# Altium footprint library MECHaniParts.PcbLib: 30 footprints (part 2 of 2)
Each footprint in its own frame and in the unit in brackets; x right, y up, seen from the top. Pads: shape width x height; smd on the part's side, far side on the other; paste and mask are expansions set on the pad; w line width, h text height; cw(c..) or ccw(c..) is an arc to the next point about the centre after c.
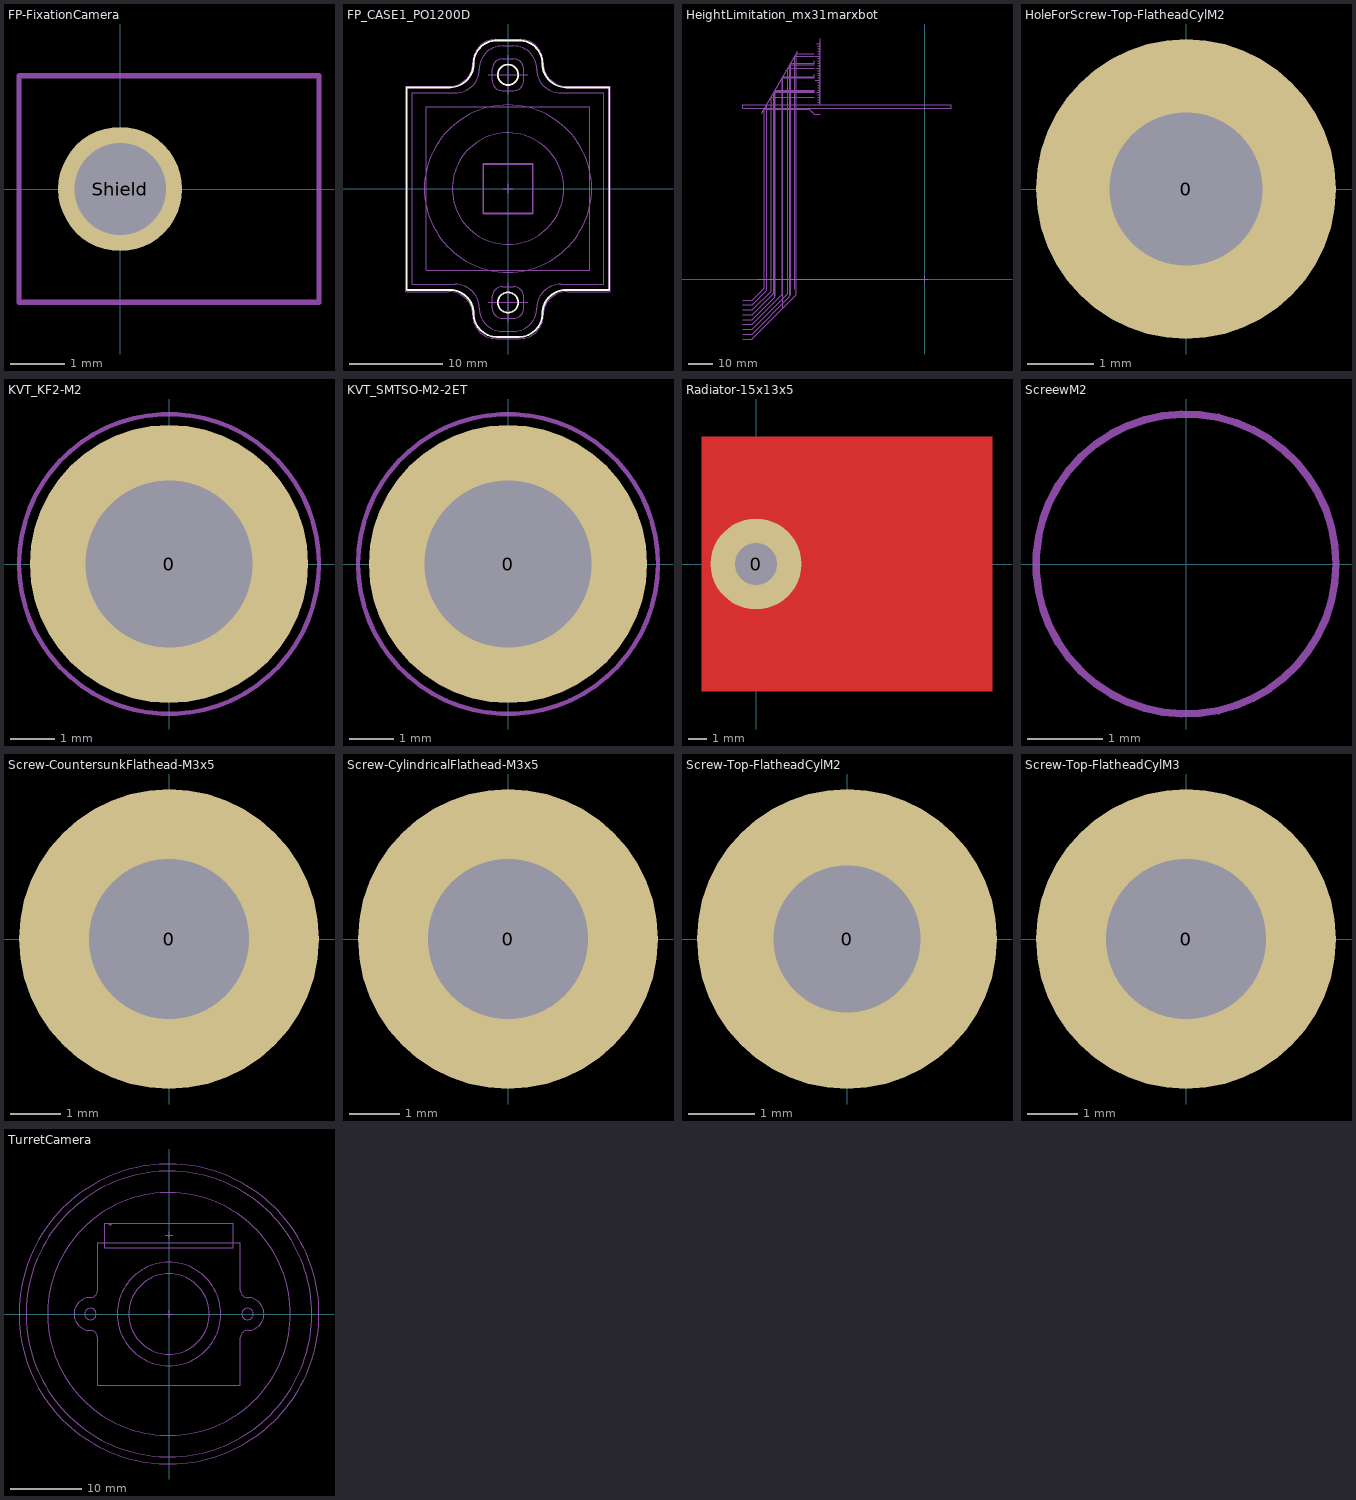
[diagram p1: the footprints below, top view; thin cyan lines are the x and y axes]

## FP-FixationCamera [mm] "Footprint for Socket for the fixation of the camera pcb"
pads (1):
  round 2.3 / inner round 2.3 / far side round 3.2 hole 1.7: Shield(0,0)
Top Overlay:
  lines w0.2: -0.625,0 cw(c0,0) 0,0.625 cw(c0,0) 0.625,0 cw(c0,0) 0,-0.625 cw(c0,0) -0.625,0
Note:
  lines w0.1: -1.874,-2.1 3.686,-2.1 3.686,2.1 -1.874,2.1 -1.874,-2.1
  text "Place a room with no component" at -5.475,3.1 h1
  text "and lock it AND the pad" at -3.75,2.375 h1
TopBody:
  lines w0.1: -0.625,0 cw(c0,0) 0,0.625 cw(c0,0) 0.625,0 cw(c0,0) 0,-0.625 cw(c0,0) -0.625,0

## FP_CASE1_PO1200D [mm] "Footprint for Case 1 of PO1200D PixelPlus Camera"
Top Overlay:
  lines w0.2: -10.9,-10.9 -6.25,-10.9 cw(c-6.25,-13.45) -3.7,-13.45 ccw(c-1.2,-13.45) -1.2,-15.95 1.2,-15.95 ccw(c1.2,-13.45) 3.7,-13.45 cw(c6.25,-13.45) 6.25,-10.9 10.9,-10.9 10.9,10.9 6.25,10.9 cw(c6.25,13.45) 3.7,13.45 ccw(c1.2,13.45) 1.2,15.95 -1.2,15.95 ccw(c-1.2,13.45) -3.7,13.45 cw(c-6.25,13.45) -6.25,10.9 -10.9,10.9 -10.9,-10.9 ; -1.1,-12.25 cw(c0,-12.25) 0,-11.15 cw(c0,-12.25) 1.1,-12.25 cw(c0,-12.25) 0,-13.35 cw(c0,-12.25) -1.1,-12.25 ; -1.1,12.25 ccw(c0,12.25) 0,11.15 ccw(c0,12.25) 1.1,12.25 ccw(c0,12.25) 0,13.35 ccw(c0,12.25) -1.1,12.25
Bottom Paste:
  lines w0.05: -6.25,-10.9 -6.25,-13.45 ; -5.807,-10.939 -6.25,-13.45 ; -5.378,-11.054 -6.25,-13.45 ; -4.975,-11.242 -6.25,-13.45 ; -4.611,-11.497 -6.25,-13.45 ; -4.297,-11.811 -6.25,-13.45 ; -4.042,-12.175 -6.25,-13.45 ; -3.854,-12.578 -6.25,-13.45 ; -3.739,-13.007 -6.25,-13.45 ; -3.662,-13.884 -1.2,-13.45 ; -3.549,-14.305 -1.2,-13.45 ; -3.365,-14.7 -1.2,-13.45 ; -3.115,-15.057 -1.2,-13.45 ; -2.807,-15.365 -1.2,-13.45 ; -2.45,-15.615 -1.2,-13.45 ; -2.055,-15.799 -1.2,-13.45 ; -1.634,-15.912 -1.2,-13.45 ; -1.2,-15.95 -1.2,-13.45 ; 1.2,-15.95 1.2,-13.45 ; 1.634,-15.912 1.2,-13.45 ; 2.055,-15.799 1.2,-13.45 ; 2.45,-15.615 1.2,-13.45 ; 2.807,-15.365 1.2,-13.45 ; 3.115,-15.057 1.2,-13.45 ; 3.365,-14.7 1.2,-13.45 ; 3.549,-14.305 1.2,-13.45 ; 3.662,-13.884 1.2,-13.45 ; 3.739,-13.007 6.25,-13.45 ; 3.854,-12.578 6.25,-13.45 ; 4.042,-12.175 6.25,-13.45 ; 4.297,-11.811 6.25,-13.45 ; 4.611,-11.497 6.25,-13.45 ; 4.975,-11.242 6.25,-13.45 ; 5.378,-11.054 6.25,-13.45 ; 5.807,-10.939 6.25,-13.45 ; 6.25,-10.9 6.25,-13.45 ; -6.25,-13.45 -3.7,-13.45 -1.2,-13.45 ; 1.2,-13.45 3.7,-13.45 6.25,-13.45
Note:
  lines w0.1: -2.1,-12.25 0,-12.25 ; -2.1,12.25 0,12.25 ; 0,-14.35 0,-12.25 ; 0,-10.15 0,-12.25 ; 0,10.15 0,12.25 ; 0,14.35 0,12.25 ; 2.1,-12.25 0,-12.25 ; 2.1,12.25 0,12.25
  lines w0.2: -2.665,-2.665 2.665,-2.665 2.665,2.665 -2.665,2.665 -2.665,-2.665
TopBody:
  circle w0.1: c0,0 r9
  circle w0.1: c0,0 r6
  lines w0.1: -10.9,-10.9 -10.9,10.9 -6.25,10.9 ccw(c-6.25,13.45) -3.7,13.45 cw(c-1.2,13.45) -1.2,15.95 0,15.95 1.2,15.95 cw(c1.2,13.45) 3.7,13.45 ccw(c6.25,13.45) 6.25,10.9 10.9,10.9 10.9,-10.9 6.25,-10.9 ccw(c6.25,-13.45) 3.7,-13.45 cw(c1.2,-13.45) 1.2,-15.95 0,-15.95 -1.2,-15.95 cw(c-1.2,-13.45) -3.7,-13.45 ccw(c-6.25,-13.45) -6.25,-10.9 -10.9,-10.9 ; -10.3,-10.3 -10.3,10.3 -5.65,10.3 ccw(c-5.65,12.85) -3.1,12.85 cw(c-0.6,12.85) -0.6,15.35 0,15.35 0.6,15.35 cw(c0.6,12.85) 3.1,12.85 ccw(c5.65,12.85) 5.65,10.3 10.3,10.3 10.3,-10.3 5.65,-10.3 ccw(c5.65,-12.85) 3.1,-12.85 cw(c0.6,-12.85) 0.6,-15.35 0,-15.35 -0.6,-15.35 cw(c-0.6,-12.85) -3.1,-12.85 ccw(c-5.65,-12.85) -5.65,-10.3 -10.3,-10.3 ; -8.8,-8.8 -8.8,8.8 0,8.8 8.8,8.8 8.8,-8.8 0,-8.8 -8.8,-8.8 ; -1.7,-12.85 ccw(c-0.6,-12.85) -0.6,-13.95 0,-13.95 0.6,-13.95 ccw(c0.6,-12.85) 1.7,-12.85 1.7,-11.65 ccw(c0.6,-11.65) 0.6,-10.55 0,-10.55 -0.6,-10.55 ccw(c-0.6,-11.65) -1.7,-11.65 -1.7,-12.85 ; -1.7,11.65 ccw(c-0.6,11.65) -0.6,10.55 0,10.55 0.6,10.55 ccw(c0.6,11.65) 1.7,11.65 1.7,12.85 ccw(c0.6,12.85) 0.6,13.95 0,13.95 -0.6,13.95 ccw(c-0.6,12.85) -1.7,12.85 -1.7,11.65
  text ".Designator" at -0.825,-0.175 h0.5
TopCourtyard:
  lines w0.05: -0.5,0 0.5,0 ; 0,-0.5 0,0.5 ; -11,-11.08 -11,11 -6.35,11 ccw(c-6.35,13.55) -3.8,13.55 cw(c-1.3,13.55) -1.3,16.05 1.3,16.05 cw(c1.3,13.55) 3.8,13.55 ccw(c6.35,13.55) 6.35,11 11,11 11,-11.08 6.35,-11.08 ccw(c6.35,-13.63) 3.8,-13.63 cw(c1.3,-13.63) 1.3,-16.13 -1.3,-16.13 cw(c-1.3,-13.63) -3.8,-13.63 ccw(c-6.35,-13.63) -6.35,-11.08 -11,-11.08
3D body: height 0.5, standoff 0, extent 0,-15.95 10.9,15.95
3D body: height 0.5, standoff 0, extent -10.9,-15.95 0,15.95

## HeightLimitation_mx31marxbot [mm] "To define the component's heigth limitation for the mx31marxbot board"
Note:
  lines w0.1: -75,-24.5 -71,-24.5 -52.875,-6.375 -52.875,93 -45.5,93 ; -75,-22.5 -71,-22.5 -55.474,-6.974 -55.474,88.5 -45.5,88.5 ; -75,-20.5 -71,-20.5 -56.34,-5.84 -56.34,87 -45.5,87 ; -75,-18.5 -71,-18.5 -58.649,-6.149 -58.649,83 -45.5,83 ; -75,-16.5 -71,-16.5 -61.825,-7.325 -61.825,77.5 ; -75,-14.5 -71,-14.5 -62.113,-5.613 -62.113,77 -45.5,77 ; -75,-12.5 -71,-12.5 -63.268,-4.768 -63.268,75 -45.5,75 ; -75,-10.5 -71,-10.5 -65,-4.5 -65,72 ; -75,-8.5 -71,-8.5 -66.155,-3.655 -66.155,70 -47.5,70 -45.5,68 -43,68 ; -69,0 0,0 ; -67.016,68.509 -52.353,93.905 ; -61.825,77.5 -45.5,77.5 ; -61.536,-6.825 -61.536,78 -45.5,78 ; -58.36,-11.974 -58.36,83.5 -45.5,83.5 -45.5,84.5 ; -55.185,-6.474 -55.185,89 -45.5,89 -45.5,90 ; -53.453,-4 -53.453,92 -45.5,92 ; -45,82 -43,82 ; -45,92 -43,92 ; -44.5,77 -43,77 ; -44.5,87 -43,87 ; -44.5,97 -43,97 ; -44,73 -43,73 ; -44,74 -43,74 ; -44,75 -43,75 ; -44,76 -43,76 ; -44,78 -43,78 ; -44,79 -43,79 ; -44,80 -43,80 ; -44,81 -43,81 ; -44,83 -43,83 ; -44,84 -43,84 ; -44,85 -43,85 ; -44,86 -43,86 ; -44,88 -43,88 ; -44,89 -43,89 ; -44,90 -43,90 ; -44,91 -43,91 ; -44,93 -43,93 ; -44,94 -43,94 ; -44,95 -43,95 ; -44,96 -43,96 ; -43.5,72.5 -43,72.5 ; -43.5,73.5 -43,73.5 ; -43.5,74.5 -43,74.5 ; -43.5,75.5 -43,75.5 ; -43.5,76.5 -43,76.5 ; -43.5,77.5 -43,77.5 ; -43.5,78.5 -43,78.5 ; -43.5,79.5 -43,79.5 ; -43.5,80.5 -43,80.5 ; -43.5,81.5 -43,81.5 ; -43.5,82.5 -43,82.5 ; -43.5,83.5 -43,83.5 ; -43.5,84.5 -43,84.5 ; -43.5,85.5 -43,85.5 ; -43.5,86.5 -43,86.5 ; -43.5,87.5 -43,87.5 ; -43.5,88.5 -43,88.5 ; -43.5,89.5 -43,89.5 ; -43.5,90.5 -43,90.5 ; -43.5,91.5 -43,91.5 ; -43.5,92.5 -43,92.5 ; -43.5,93.5 -43,93.5 ; -43.5,94.5 -43,94.5 ; -43.5,95.5 -43,95.5 ; -43.5,96.5 -43,96.5 ; -43.5,97.5 -43,97.5 ; -43,72 -43,99 ; -75,70.4 11,70.4 11,72 -75,72 -75,70.4
  text "Bot PCB - 0.4 = SD on Bot" at -42,67.5 h1.52
  text "Top PCB + 11" at -42,82.5 h1.52
  text "Top PCB + 16.5" at -97,-23 h1.52
  text "Top PCB + 11" at -94,-19 h1.52
  text "Top PCB + 5" at -93,-15 h1.52
  text "Top PCB + 5" at -42,76 h1.52
  text "Top PCB + 3 = SD on Top" at -42,74 h1.52
  text "Top PCB + 16.5" at -42,88 h1.52
  text "Top PCB + 5.5" at -96,-17 h1.52
  text "SD ot Top = Top PCB + 3" at -111,-13 h1.52
  text "Top PCB" at -87,-11 h1.52
  text "For SD on Bot = Bot PCB - 0.4" at -120,-9 h1.52
  text "PCB" at -81,71 h1.52
  text "Top PCB + 21 = Camera case" at -41.7,92.6 h1.52
  text "Top PCB + 21" at -94,-25 h1.52
  text "Top PCB + 15" at -94.5,-21 h1.52
TopCourtyard:
  lines w0.05: -1.3,0 0,0 ; 0,-1.3 0,0 ; 0,1.3 0,0 ; 1.3,0 0,0
3D body: height 22, standoff 3, extent -63.25,-63.25 63.25,63.25
3D body: height 22, standoff 5, extent -62.1,-62.1 62.1,62.1
3D body: height 22, standoff 20, extent -53.45,-53.45 53.45,53.45
3D body: height 22, standoff 17, extent -21,-21 21,21
3D body: height 22, standoff 15, extent -56.325,-56.325 56.325,56.325
3D body: height 22, standoff 21, extent -52.875,-52.875 52.875,52.875
3D body: height 22, standoff 16.5, extent -55.475,-55.475 55.475,55.475
3D body: height 22, standoff 17, extent -55.175,-55.175 55.175,55.175
3D body: height 22, standoff 5.5, extent -61.825,-61.825 61.825,61.825
3D body: height 22, standoff 6, extent -61.525,-61.525 61.525,61.525
3D body: height 22, standoff 11, extent -58.65,-58.65 58.65,58.65
3D body: height 22, standoff 11.5, extent -58.35,-58.35 58.35,58.35

## HoleForScrew-Top-FlatheadCylM2 [mm] "Hole for Screw Flathead cylindrical M2, normal size only on top"
pads (1):
  round 4.5 / inner round 4.5 / far side round 2.7 hole 2.3: 0(0,0)
3D body: height 0, standoff 0, extent -0.3,-0.3 0.3,0.3

## KVT_KF2-M2 [mm] "Crimp Nut M2"
height 1.65
pads (1):
  round 6.2 / inner round 4.5 / far side round 5 hole 3.73: 0(0,0)
M-CAD:
  circle w0.01: c0,0 r1.975
  lines w0.01: -2.875,0 -1,0 ; -2.831,-0.499 -0.985,-0.174 ; -2.831,0.499 -0.985,0.174 ; -2.702,-0.983 -0.94,-0.342 ; -2.702,0.983 -0.94,0.342 ; -2.49,-1.438 -0.866,-0.5 ; -2.49,1.438 -0.866,0.5 ; -2.202,-1.848 -0.766,-0.643 ; -2.202,1.848 -0.766,0.643 ; -2.092,-0.183 -1.975,0 ; -2.092,0.183 -1.945,0.343 ; -2.028,-0.544 -1.945,-0.343 ; -2.028,0.544 -1.856,0.675 ; -1.903,-0.887 -1.856,-0.675 ; -1.903,0.888 -1.71,0.987 ; -1.848,-2.202 -0.643,-0.766 ; -1.848,2.202 -0.643,0.766 ; -1.72,-1.205 -1.71,-0.988 ; -1.72,1.205 -1.513,1.27 ; -1.513,-1.27 -1.485,-1.485 ; -1.485,1.485 -1.27,1.513 ; -1.438,-2.49 -0.5,-0.866 ; -1.438,2.49 -0.5,0.866 ; -1.27,-1.513 -1.205,-1.72 ; -1.205,1.72 -0.988,1.71 ; -0.987,-1.71 -0.888,-1.903 ; -0.983,-2.702 -0.342,-0.94 ; -0.983,2.702 -0.342,0.94 ; -0.887,1.903 -0.675,1.856 ; -0.675,-1.856 -0.544,-2.028 ; -0.544,2.028 -0.343,1.945 ; -0.499,-2.831 -0.174,-0.985 ; -0.499,2.831 -0.174,0.985 ; -0.343,-1.945 -0.183,-2.092 ; -0.183,2.092 0,1.975 ; 0,-2.875 0,-1 ; 0,-1.975 0.183,-2.092 ; 0,1 0,2.875 ; 0.174,-0.985 0.499,-2.831 ; 0.174,0.985 0.499,2.831 ; 0.183,2.092 0.343,1.945 ; 0.342,-0.94 0.983,-2.702 ; 0.342,0.94 0.983,2.702 ; 0.343,-1.945 0.544,-2.028 ; 0.5,-0.866 1.438,-2.49 ; 0.5,0.866 1.438,2.49 ; 0.544,2.028 0.675,1.856 ; 0.643,-0.766 1.848,-2.202 ; 0.643,0.766 1.848,2.202 ; 0.675,-1.856 0.887,-1.903 ; 0.766,-0.643 2.202,-1.848 ; 0.766,0.643 2.202,1.848 ; 0.866,-0.5 2.49,-1.438 ; 0.866,0.5 2.49,1.438 ; 0.888,1.903 0.987,1.71 ; 0.94,-0.342 2.702,-0.983 ; 0.94,0.342 2.702,0.983 ; 0.985,-0.174 2.831,-0.499 ; 0.985,0.174 2.831,0.499 ; 0.988,-1.71 1.205,-1.72 ; 1,0 2.875,0 ; 1.205,1.72 1.27,1.513 ; 1.27,-1.513 1.485,-1.485 ; 1.485,1.485 1.513,1.27 ; 1.513,-1.27 1.72,-1.205 ; 1.71,-0.987 1.903,-0.888 ; 1.71,0.988 1.72,1.205 ; 1.856,-0.675 2.028,-0.544 ; 1.856,0.675 1.903,0.887 ; 1.945,-0.343 2.092,-0.183 ; 1.945,0.343 2.028,0.544 ; 1.975,0 2.092,0.183
TopBody:
  circle w0.1: c0,0 r1
  circle w0.1: c0,0 r2.875
  lines w0.1: -2.092,-0.183 -2.028,-0.544 ; -2.092,0.183 -2.028,0.544 ; -1.903,-0.887 -1.72,-1.205 ; -1.903,0.888 -1.72,1.205 ; -1.485,-1.485 -1.205,-1.72 ; -1.485,1.485 -1.205,1.72 ; -0.888,-1.903 -0.544,-2.028 ; -0.887,1.903 -0.544,2.028 ; -0.183,-2.092 0.183,-2.092 ; -0.183,2.092 0.183,2.092 ; 0.544,-2.028 0.887,-1.903 ; 0.544,2.028 0.888,1.903 ; 1.205,-1.72 1.485,-1.485 ; 1.205,1.72 1.485,1.485 ; 1.72,-1.205 1.903,-0.888 ; 1.72,1.205 1.903,0.887 ; 2.028,-0.544 2.092,-0.183 ; 2.028,0.544 2.092,0.183
  text ".Designator" at -0.85,-0.175 h0.5
TopCourtyard:
  circle w0.1: c0,0 r3.345
3D body: height 1.65, standoff 0, extent 0,-2.875 2.875,2.875
3D body: height 0, standoff -1.5, extent 0,-2.092 2.092,2.092
3D body: height 0, standoff -1.5, extent -2.092,-2.092 0,2.092
3D body: height 1.65, standoff 0, extent -2.875,-2.875 0,2.875

## KVT_SMTSO-M2-2ET [mm] "Solder Nut M2"
height 2.13
pads (1):
  round 6.2 / inner round 4.5 / far side round 5 hole 3.73: 0(0,0)
M-CAD:
  circle w0.01: c0,0 r1.8
  lines w0.01: -2.845,0 -1.8,0 -1,0 ; -2.802,-0.494 -1.773,-0.313 -0.985,-0.174 ; -2.802,0.494 -1.773,0.313 -0.985,0.174 ; -2.673,-0.973 -1.691,-0.616 -0.94,-0.342 ; -2.673,0.973 -1.691,0.616 -0.94,0.342 ; -2.464,-1.423 -1.559,-0.9 -0.866,-0.5 ; -2.464,1.422 -1.559,0.9 -0.866,0.5 ; -2.179,-1.829 -1.379,-1.157 -0.766,-0.643 ; -2.179,1.829 -1.379,1.157 -0.766,0.643 ; -1.829,-2.179 -1.157,-1.379 -0.643,-0.766 ; -1.829,2.179 -1.157,1.379 -0.643,0.766 ; -1.422,-2.464 -0.9,-1.559 -0.5,-0.866 ; -1.423,2.464 -0.9,1.559 -0.5,0.866 ; -0.973,-2.673 -0.616,-1.691 -0.342,-0.94 ; -0.973,2.673 -0.616,1.691 -0.342,0.94 ; -0.494,-2.802 -0.313,-1.773 -0.174,-0.985 ; -0.494,2.802 -0.313,1.773 -0.174,0.985 ; 0,-2.845 0,-1.8 0,-1 ; 0,1 0,1.8 0,2.845 ; 0.174,-0.985 0.313,-1.773 0.494,-2.802 ; 0.174,0.985 0.313,1.773 0.494,2.802 ; 0.342,-0.94 0.616,-1.691 0.973,-2.673 ; 0.342,0.94 0.616,1.691 0.973,2.673 ; 0.5,-0.866 0.9,-1.559 1.423,-2.464 ; 0.5,0.866 0.9,1.559 1.422,2.464 ; 0.643,-0.766 1.157,-1.379 1.829,-2.179 ; 0.643,0.766 1.157,1.379 1.829,2.179 ; 0.766,-0.643 1.379,-1.157 2.179,-1.829 ; 0.766,0.643 1.379,1.157 2.179,1.829 ; 0.866,-0.5 1.559,-0.9 2.464,-1.422 ; 0.866,0.5 1.559,0.9 2.464,1.423 ; 0.94,-0.342 1.691,-0.616 2.673,-0.973 ; 0.94,0.342 1.691,0.616 2.673,0.973 ; 0.985,-0.174 1.773,-0.313 2.802,-0.494 ; 0.985,0.174 1.773,0.313 2.802,0.494 ; 1,0 1.8,0 2.845,0
TopBody:
  circle w0.1: c0,0 r1
  circle w0.1: c0,0 r2.845
  lines w0.1: -1.8,0 -1.773,-0.313 ; -1.773,0.313 -1.691,0.616 ; -1.691,-0.616 -1.559,-0.9 ; -1.559,0.9 -1.379,1.157 ; -1.379,-1.157 -1.157,-1.379 ; -1.157,1.379 -0.9,1.559 ; -0.9,-1.559 -0.616,-1.691 ; -0.616,1.691 -0.313,1.773 ; -0.313,-1.773 0,-1.8 ; 0,1.8 0.313,1.773 ; 0.313,-1.773 0.616,-1.691 ; 0.616,1.691 0.9,1.559 ; 0.9,-1.559 1.157,-1.379 ; 1.157,1.379 1.379,1.157 ; 1.379,-1.157 1.559,-0.9 ; 1.559,0.9 1.691,0.616 ; 1.691,-0.616 1.773,-0.313 ; 1.773,0.313 1.8,0
  text ".Designator" at -0.825,-0.175 h0.5
TopCourtyard:
  circle w0.1: c0,0 r3.345
3D body: height 0, standoff -1.53, extent -1.8,-1.8 1.8,1.8
3D body: height 2.13, standoff 0, extent -2.845,-2.845 2.845,2.845

## Measure [mm]
3D body "Measure.step": height 0.03, standoff -0.03, extent -80.025,-0.5 0.025,0.5
3D body "Measure.step": height 0.03, standoff -80.02, extent -0.025,-0.5 0.025,0.5
3D body "Measure.step": height 0.03, standoff -0.03, extent -0.5,-80.025 0.5,0.025
3D body "Measure.step": height 0.03, standoff -0.03, extent -0.5,-0.025 0.5,80.025
3D body "Measure.step": height 80.02, standoff -0.03, extent -0.025,-0.5 0.025,0.5
3D body "Measure.step": height 0.03, standoff -0.03, extent -0.025,-0.5 80.025,0.5

## Radiator-15x13x5 [mm]
height 5
pads (1):
  round 5 hole 2.3: 0(0,0)
Top Layer:
  rectangle: -3,-7 13,7
Top Solder:
  rectangle: -3.25,-7.25 13.25,7.25
3D body: height 5, standoff 0, extent -2.5,-6.5 12.5,0
3D body: height 5, standoff 0, extent -2.5,0 12.5,6.5

## ScreewM2 [mm]
height 2
TopBody:
  circle w0.1: c0,0 r2
3D body: height 1.2, standoff 0, extent -2,-2 2,2

## Screw-CountersunkFlathead-M3x5 [mm] "Screw Countersunk Flathead M3, normal size only on top"
pads (1):
  round 6 / inner round 6 / far side round 3.6 hole 3.2: 0(0,0)
TopBody:
  lines w0.1: -2.583,0.592 cw(c0,0) 2.582,0.596 -2.583,0.596 ; 2.583,-0.596 -2.582,-0.596 ccw(c0,0) 2.583,-0.592
3D body "ScrewM3x5.STEP": height 0.01, standoff -4.99, extent -2.75,-2.75 2.75,2.75

## Screw-CylindricalFlathead-M3x5 [mm] "Screw Cylindrical Flathead M3, normal size only on top"
pads (1):
  round 6 / inner round 6 / far side round 3.6 hole 3.2: 0(0,0)
3D body "ScrewM3x5.STEP": height 2.34, standoff -5.03, extent -2.8,-2.8 2.8,2.8

## Screw-Top-FlatheadCylM2 [mm] "Screw Flathead cylindrical M2, normal size only on top"
pads (1):
  round 4.5 / inner round 4.5 / far side round 2.6 hole 2.2: 0(0,0)
TopBody:
  circle w0.1: c0,0 r1.8
  lines w0.1: -1.734,0.481 1.734,0.481
3D body: height 1, standoff 0, extent -1.801,-1.801 1.801,1.801
3D body: height 2, standoff 0, extent -1.735,-1.801 1.735,-0.481
3D body: height 2, standoff 0, extent -1.735,0.481 1.735,1.801

## Screw-Top-FlatheadCylM3 [mm] "Screw Flathead cylindrical M3, normal size only on top"
pads (1):
  round 6 / inner round 6 / far side round 3.6 hole 3.2: 0(0,0)
TopBody:
  lines w0.1: -2.583,0.592 cw(c0,0) 2.582,0.596 -2.583,0.596 ; 2.583,-0.596 -2.582,-0.596 ccw(c0,0) 2.583,-0.592
3D body: height 2, standoff 0, extent -2.581,-2.649 2.582,-0.596
3D body: height 2, standoff 0, extent -2.584,0.591 2.583,2.65
3D body: height 1, standoff 0, extent -2.65,-2.65 2.649,2.649

## TurretCamera [mm] "MT9T001 Micron Camera with optic on the TurretCamera pcb"
height 16.2
Note:
  circle w0.05: c0,0 r21
  circle w0.05: c0,0 r20
  circle w0.05: c0,0 r17
  lines w0.05: -8.555,12.715 -8.255,12.415 -7.955,12.715 ; -0.5,0 0,0 ; -0.5,11 0,11 ; 0,-0.5 0,0 ; 0,0.5 0,0 ; 0,10.5 0,11 ; 0,11.5 0,11 ; 0.5,0 0,0 ; 0.5,11 0,11 ; -13.3,0 cw(c-11,0) -11,2.3 ; -13.3,0 ccw(c-11,0) -11,-2.3 ; -13.3,0 cw(c-11,0) -11,2.3 ; -13.3,0 ccw(c-11,0) -11,-2.3 ; -13.3,0 -13.3,0 ; -13.3,0 -13.3,0 ; -11,-2.3 cw(c-11,-3.3) -10,-3.3 ; -11,-2.3 cw(c-11,-3.3) -10,-3.3 ; -11,2.3 ccw(c-11,3.3) -10,3.3 ; -11,2.3 ccw(c-11,3.3) -10,3.3 ; -10,-10 -10,-3.3 ; -10,-10 10,-10 ; -10,-10 -10,-3.3 ; -10,-10 10,-10 ; -10,3.3 -10,10 ; -10,3.3 -10,10 ; -10,10 10,10 ; -10,10 10,10 ; 10,-10 10,-3.3 ; 10,-10 10,-3.3 ; 10,-3.3 cw(c11,-3.3) 11,-2.3 ; 10,-3.3 cw(c11,-3.3) 11,-2.3 ; 10,3.3 ccw(c11,3.3) 11,2.3 ; 10,3.3 ccw(c11,3.3) 11,2.3 ; 10,3.3 10,10 ; 10,3.3 10,10 ; 11,-2.3 ccw(c11,0) 13.3,0 ; 11,-2.3 ccw(c11,0) 13.3,0 ; 11,2.3 cw(c11,0) 13.3,0 ; 11,2.3 cw(c11,0) 13.3,0 ; -11.8,0 cw(c-11,0) -11,0.8 cw(c-11,0) -10.2,0 cw(c-11,0) -11,-0.8 cw(c-11,0) -11.8,0 ; -9.015,9.285 -9.015,12.715 9.015,12.715 9.015,9.285 -9.015,9.285 ; -7.25,0 cw(c0,0) 0,7.25 cw(c0,0) 7.25,0 cw(c0,0) 0,-7.25 cw(c0,0) -7.25,0 ; -5.625,0 cw(c0,0) 0,5.625 cw(c0,0) 5.625,0 cw(c0,0) 0,-5.625 cw(c0,0) -5.625,0 ; 10.2,0 cw(c11,0) 11,0.8 cw(c11,0) 11.8,0 cw(c11,0) 11,-0.8 cw(c11,0) 10.2,0
3D body "TurretCamera.step": height 88.01, standoff -18.1, extent -21.011,-21.011 21.011,21.011